# Altium footprint library MPPT_600W.PcbLib: 19 footprints (part 2 of 2)
Each footprint in its own frame and in the unit in brackets; x right, y up, seen from the top. Pads: shape width x height; smd on the part's side, far side on the other; paste and mask are expansions set on the pad; w line width, h text height; cw(c..) or ccw(c..) is an arc to the next point about the centre after c.
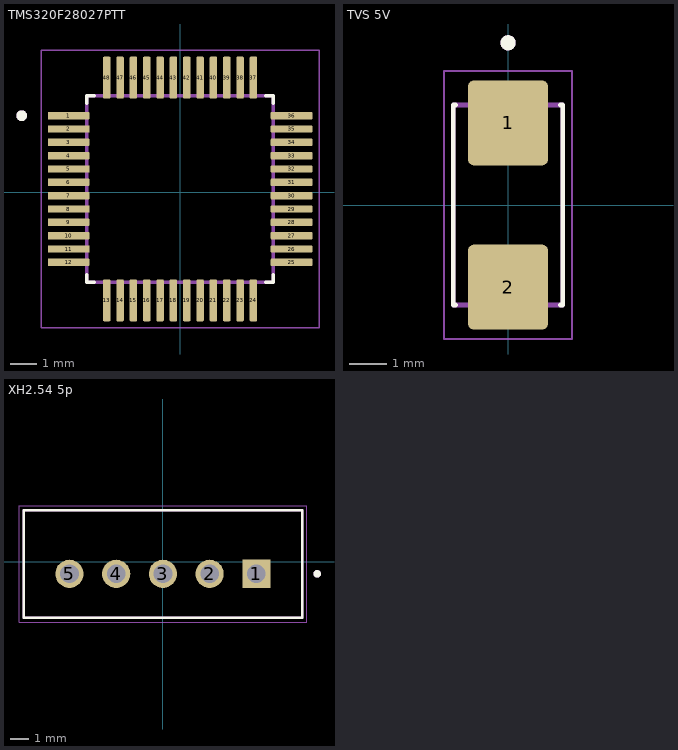
[diagram p1: the footprints below, top view; thin cyan lines are the x and y axes]

## TMS320F28027PTT [mm]
pads (48):
  rrect25% 1.56x0.28 smd: 1(-4.18,2.877) 2(-4.18,2.377) 3(-4.18,1.877) 4(-4.18,1.377) 5(-4.18,0.877) 6(-4.18,0.377) 7(-4.18,-0.123) 8(-4.18,-0.623) 9(-4.18,-1.123) 10(-4.18,-1.623) 11(-4.18,-2.123) 12(-4.18,-2.623) 25(4.18,-2.623) 26(4.18,-2.123) 27(4.18,-1.623) 28(4.18,-1.123) 29(4.18,-0.623) 30(4.18,-0.123) 31(4.18,0.377) 32(4.18,0.877) 33(4.18,1.377) 34(4.18,1.877) 35(4.18,2.377) 36(4.18,2.877)
  rrect25% 0.28x1.56 smd: 13(-2.75,-4.053) 14(-2.25,-4.053) 15(-1.75,-4.053) 16(-1.25,-4.053) 17(-0.75,-4.053) 18(-0.25,-4.053) 19(0.25,-4.053) 20(0.75,-4.053) 21(1.25,-4.053) 22(1.75,-4.053) 23(2.25,-4.053) 24(2.75,-4.053) 37(2.75,4.307) 38(2.25,4.307) 39(1.75,4.307) 40(1.25,4.307) 41(0.75,4.307) 42(0.25,4.307) 43(-0.25,4.307) 44(-0.75,4.307) 45(-1.25,4.307) 46(-1.75,4.307) 47(-2.25,4.307) 48(-2.75,4.307)
Top Overlay:
  circle w0.2: c-5.94,2.877 r0.1
  lines w0.127: -3.5,-3.083 -3.5,-3.373 -3.21,-3.373 ; -3.5,3.337 -3.5,3.627 -3.21,3.627 ; 3.21,-3.373 3.5,-3.373 3.5,-3.083 ; 3.21,3.627 3.5,3.627 3.5,3.337
Mechanical 13:
  circle w0.2: c-5.94,2.877 r0.1
  lines w0.127: -3.5,-3.373 -3.5,3.627 3.5,3.627 3.5,-3.373 -3.5,-3.373
Mechanical 15:
  lines w0.05: -5.21,-5.083 -5.21,5.337 5.21,5.337 5.21,-5.083 -5.21,-5.083
3D body "step_temp.STEP": height 1.6, standoff 0, extent -4.5,-4.373 4.5,4.627

## TVS 5V [mm]
pads (2):
  rrect15% 2.13x2.25 smd: 1(0,2.175) 2(0,-2.175)
Top Overlay:
  circle w0.2: c0,4.3 r0.1
  lines w0.127: -1.385,-2.65 -1.45,-2.65 -1.45,2.65 -1.385,2.65 ; 1.385,-2.65 1.45,-2.65 1.45,2.65 1.385,2.65
Mechanical 13:
  circle w0.2: c0,4.3 r0.1
  lines w0.127: -1.45,-2.65 -1.45,2.65 1.45,2.65 1.45,-2.65 -1.45,-2.65
Mechanical 15:
  lines w0.05: -1.7,-3.55 1.7,-3.55 1.7,3.55 -1.7,3.55 -1.7,-3.55
3D body "step_temp.STEP": height 2.5, standoff 0, extent -1.81,-2.648 1.81,2.648

## XH2.54 5p [mm]
pads (5):
  rect 1.508x1.508 / inner round 1.508 / far side rect 1.508x1.508 hole 1: 1(5,-0.652)
  round 1.508 hole 1: 2(2.5,-0.652) 3(0,-0.652) 4(-2.5,-0.652) 5(-5,-0.652)
Top Overlay:
  circle w0.2: c8.25,-0.652 r0.1
  lines w0.127: -7.45,-3.002 -7.45,2.748 7.45,2.748 7.45,-3.002 -7.45,-3.002
Mechanical 13:
  circle w0.2: c8.25,-0.652 r0.1
  lines w0.127: -7.45,-3.002 -7.45,2.748 7.45,2.748 7.45,-3.002 -7.45,-3.002
Mechanical 15:
  lines w0.05: -7.7,-3.252 -7.7,2.998 7.7,2.998 7.7,-3.252 -7.7,-3.252
3D body "step_temp.STEP": height 7, standoff -3.4, extent -7.45,-3.002 7.45,2.748